# Altium integrated library SFControl.IntLib: 17 symbols
Pins are listed as number, name and electrical type; pins without a type are passive.

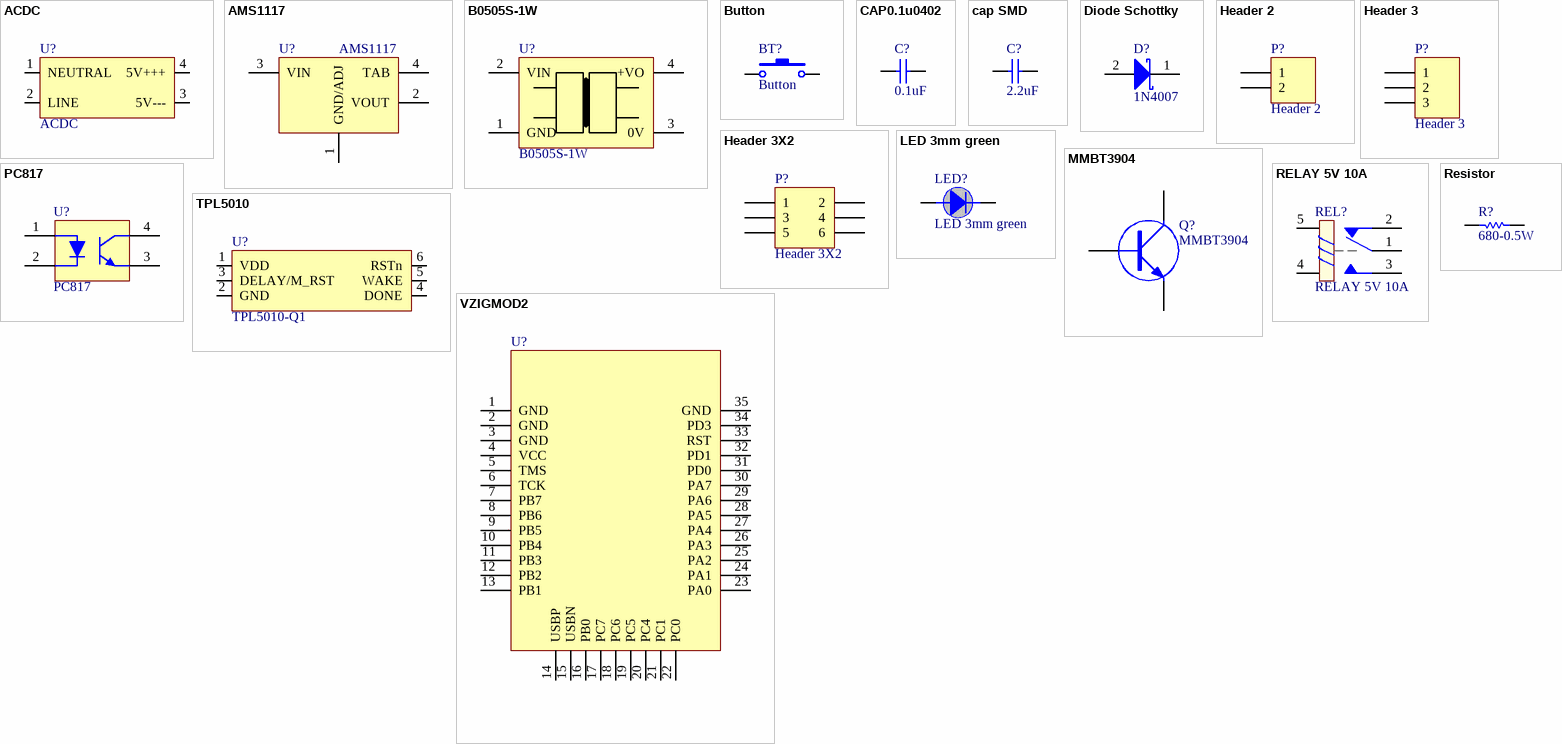
[diagram p0: symbols ACDC to VZIGMOD2]

## ACDC
designator U?
footprint ACDC
pins: 1 NEUTRAL, 2 LINE, 3 5V---, 4 5V+++

## AMS1117
designator U?
footprint SOT223-3
pins: 1 GND/ADJ, 2 VOUT, 3 VIN, 4 TAB

## B0505S-1W
designator U?
footprint B0505S-1W
pins: 1 GND, 2 VIN, 3 0V, 4 +VO

## Button
designator BT?
footprint SWSMD
pins: 1, 2

## CAP0.1u0402
designator C?, comment 0.1uF
CAP CER 0.1UF 16V X7R 0402; Manufacturer: Samsung Electro-Mechanics; Manufacturer Part Number: CL05B104KO5NNNC; Tolerance: ±10%; Notification: Current market demand for these product types have resulted in fluctuating and extending lead times. Lead times may differ.; Module: Connectivity; Supplier 1: Digi-Key; Supplier Part Number 1: 1276-1001-6-ND; RoHS: RoHS Compliant; Category: Capacitors; Stock 1: 100000; Pricing 1: 1=0.1, 10=0.03, 100=0.0134, 500=0.00958, 1000=0.00753, 2500=0.00684, 5000=0.0063 (USD); Packaging: Digi-Reel®; Part Status: Active; Voltage - Rated: 16V; Temperature Coefficient: X7R; Operating Temperature: -55°C ~ 125°C; Features: -; Ratings: -; Applications: General Purpose; Mounting Type: Surface Mount, MLCC; Package / Case: 0402 (1005 Metric); Size / Dimension: 0.039" L x 0.020" W (1.00mm x 0.50mm); Height - Seated (Max): -; Thickness (Max): 0.022" (0.55mm); Lead Spacing: -; Lead Style: -; ComponentLink1URL: http://www.samsungsem.com/kr/support/product-search/mlcc/CL05B104KO5NNNC.jsp; ComponentLink1Description: http://www.samsungsem.com/kr/support/product-search/mlcc/CL05B104KO5NNNC.jsp
footprint 0805 cap
footprint 0603C
footprint 0402C
footprint 1206C
footprint C0402M
pins: 1, 2

## cap SMD
designator C?, comment 2.2uF
footprint 0805 cap
footprint 0603C
footprint 0402C
footprint 1206C
footprint 1210C
pins: 1, 2

## Diode Schottky
designator D?, comment 1N4007
footprint SMA-diode (SODFL, 2-Leads, Body 2.60x5.19mm, IPC Medium Density)
pins: 1 K, 2 A

## Header 2
designator P?
Header, 2-Pin; LatestRevisionDate: 17-Jul-2002; LatestRevisionNote: Re-released for DXP Platform.; Publisher: Altium Limited
footprint HDR1X2 (Connector; Header; 2 Position)
signal-integrity model Connector
footprint HED2T
pins: 1, 2

## Header 3
designator P?
Header, 3-Pin; LatestRevisionDate: 17-Jul-2002; LatestRevisionNote: Re-released for DXP Platform.; Publisher: Altium Limited
footprint HDR1X3 (Connector; Header; 3 Position)
signal-integrity model Connector
pins: 1, 2, 3

## Header 3X2
designator P?
Header, 3-Pin, Dual row; LatestRevisionDate: 17-Jul-2002; LatestRevisionNote: Re-released for DXP Platform.; Publisher: Altium Limited
footprint HDR2X3 (Connector; Header; 3x2 Position)
signal-integrity model Connector
footprint HDR2X3SMDF (Connector; Header; 3x2 Position)
pins: 1, 2, 3, 4, 5, 6

## LED 3mm green
designator LED?
footprint LED 3mm green
pins: 1 anot, 2 Katot

## MMBT3904
designator Q?
TRANS NPN 40V 0.2A SOT-23; Manufacturer: Fairchild/ON Semiconductor; Current - Collector (Ic) (Max): 200mA; Vce Saturation (Max) @ Ib, Ic: 300mV @ 5mA, 50mA; DC Current Gain (hFE) (Min) @ Ic, Vce: 100 @ 10mA, 1V; Power - Max: 350mW; Frequency - Transition: 300MHz; Supplier 1: Digi-Key; Manufacturer Part Number: MMBT3904; RoHS: RoHS Compliant; Category: Discrete Semiconductor Products; Stock 1: 366264; Pricing 1: 1=0.16, 10=0.149, 100=0.0812, 500=0.04998, 1000=0.03408 (USD); Packaging: Cut Tape (CT); Part Status: Active; Transistor Type: NPN; Voltage - Collector Emitter Breakdown (Max): 40V; Current - Collector Cutoff (Max): -; Operating Temperature: -55°C ~ 150°C (TJ); Mounting Type: Surface Mount; Package / Case: TO-236-3, SC-59, SOT-23-3; Supplier Device Package: SOT-23-3; ComponentLink1URL: https://www.fairchildsemi.com/datasheets/MM/MMBT3904.pdf; ComponentLink1Description: https://www.fairchildsemi.com/datasheets/MM/MMBT3904.pdf; Supplier Part Number 1: MMBT3904FSCT-ND
footprint SOT23-3LN (SOT23, 3-Leads, Body 2.90x2.30mm, Pitch 0.95mm, IPC Medium Density)
pins: 1 B, 2 C, 3 E

## PC817
designator U?
footprint PC817 SMD
pins: 1, 2, 3, 4

## RELAY 5V 10A
designator REL?
footprint RELAY 5V-10A
pins: 1, 2, 3, 4, 5

## Resistor
designator R?, comment 680-0.5W
footprint 0805 Resistor
footprint 0603R
footprint 0402R
footprint 1206R
footprint R1/4W (R 1/4W, 2 Pin, 350mil)
footprint R1W (R 1W, 2 pin, 500mil)
pins: 1, 2

## TPL5010
designator U?, comment TPL5010-Q1
IC TIMER W/WATCHDOG 6SOT; Manufacturer: Texas Instruments; Manufacturer Part Number: TPL5010QDDCRQ1; Voltage - Supply: 1.8 V ~ 5 V; Current - Supply: 35nA; Supplier 1: Digi-Key; RoHS: RoHS Compliant; Category: Integrated Circuits (ICs); Stock 1: 2785; Pricing 1: 1=1.27, 10=1.136, 100=0.886, 500=0.73192, 1000=0.57783 (USD); Packaging: Cut Tape (CT); Part Status: Active; Type: Programmable Timer; Count: -; Frequency: -; Operating Temperature: -40°C ~ 125°C; Package / Case: SOT-23-6 Thin, TSOT-23-6; Supplier Device Package: TSOT-23-6; Mounting Type: Surface Mount; ComponentLink1URL: http://www.ti.com/lit/ds/symlink/tpl5010-q1.pdf; ComponentLink1Description: http://www.ti.com/lit/ds/symlink/tpl5010-q1.pdf; Supplier Part Number 1: 296-44963-1-ND
footprint SOT23-6
pins: 1 VDD, 2 GND, 3 DELAY/M_RST, 4 DONE, 5 WAKE, 6 RSTn

## VZIGMOD2
designator U?
VNPT ZIGBEE MODULE V1 - No-PA; Manufacturer: VNPT-Technology; Manufacturer Part Number: VZIGMOD1; Utilized IC / Part: CC2538; Catgory: RF/IF and RFID; Sensitivity: -99dBm; Data Rate: 250kbps; Frequency: 2.4GHz; Power - Output: 7dBm; Serial Interfaces: I²C, SPI, UART; Antenna Type: Integrated, PCB, External; Voltage - Supply: 1.85 V ~ 3.8 V; Module: Connectivity; Mounting Type: Surface Mount; Operating Temperature: -40°C ~ 85°C; Package / Case: 33-SMD Module
footprint VZIGMOD2
pins: 1 GND, 2 GND, 3 GND, 4 VCC, 5 TMS, 6 TCK, 7 PB7, 8 PB6, 9 PB5, 10 PB4, 11 PB3, 12 PB2, 13 PB1, 14 USBP, 15 USBN, 16 PB0, 17 PC7, 18 PC6, 19 PC5, 20 PC4, 21 PC1, 22 PC0, 23 PA0, 24 PA1, 25 PA2, 26 PA3, 27 PA4, 28 PA5, 29 PA6, 30 PA7, 31 PD0, 32 PD1, 33 RST, 34 PD3, 35 GND